# Altium footprint library Gyro-IAM20380_footprint.PcbLib: 1 footprints
Each footprint in its own frame and in the unit in brackets; x right, y up, seen from the top. Pads: shape width x height; smd on the part's side, far side on the other; paste and mask are expansions set on the pad; w line width, h text height; cw(c..) or ccw(c..) is an arc to the next point about the centre after c.
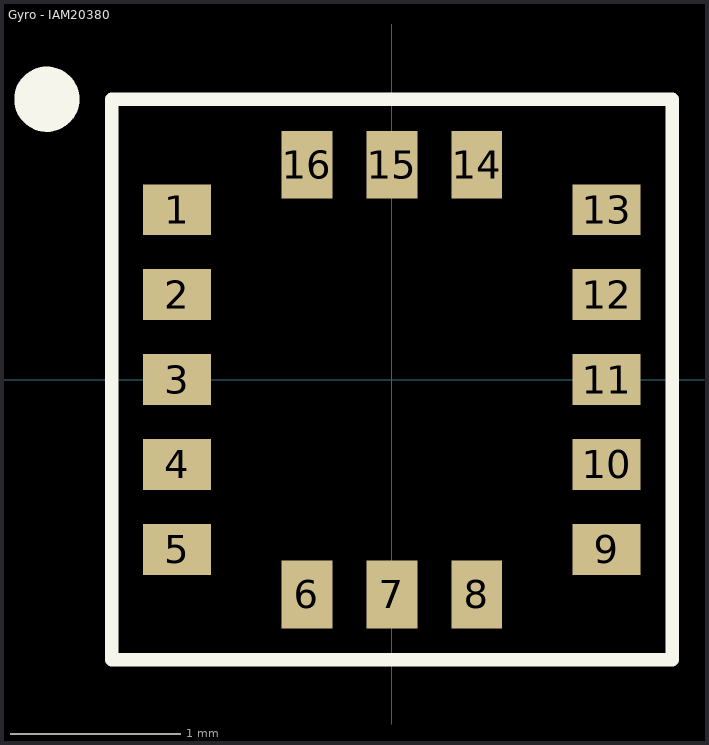
[diagram p0: the footprint, top view; thin cyan lines are the x and y axes]

## Gyro - IAM20380 [mm]
height 0.75
pads (16):
  rect 0.4x0.3 smd mask+0.05: 1(-1.265,1) 2(-1.265,0.5) 3(-1.265,0) 4(-1.265,-0.5) 5(-1.265,-1) 9(1.265,-1) 10(1.265,-0.5) 11(1.265,0) 12(1.265,0.5) 13(1.265,1)
  rect 0.3x0.4 smd mask+0.05: 6(-0.5,-1.265) 7(0,-1.265) 8(0.5,-1.265) 14(0.5,1.265) 15(0,1.265) 16(-0.5,1.265)
Top Overlay:
  circle w0.254: c-2.032,1.651 r0.065
  lines w0.08: -1.651,-1.651 1.651,-1.651 1.651,1.651 -1.651,1.651 -1.651,-1.651